# Altium integrated library ST Data Line Filter.IntLib: 2 symbols
Pins are listed as number, name and electrical type; pins without a type are passive.

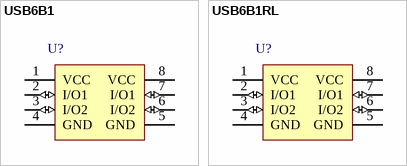
[diagram p0: symbols USB6B1 to USB6B1RL]

## USB6B1
designator U?
Data Lines Protection, 2-Input Line Filter + ESD + Vbus, SO-8; Published: 6-Jun-2005; DatasheetDocument: 2003; PackageDocument: Dec-2002; PackageReference: SO8; Publisher: Altium Limited; Code_JEDEC: MS-012-AA; Code_IPC: SO8; ComponentLink1Description: Manufacturer Link; ComponentLink1URL: http://www.st.com/; ComponentLink2Description: Datasheet; ComponentLink2URL: http://www.st.com/stonline/books/pdf/docs/5605.pdf
footprint SO8 (Small Outline; 8 Leads; Body Width 3.9 mm; Pitch 1.27 mm)
3D model SO8 (Small Outline; 8 Leads; Body Width 3.9 mm; Pitch 1.27 mm)
pins: 1 VCC (power) "Supply", 2 I/O1 (io) "Input/Output 1", 3 I/O2 (io) "Input/Output 2", 4 GND (power) "Ground", 5 GND (power) "Ground", 6 I/O2 (io) "Input/Output 2", 7 I/O1 (io) "Input/Output 1", 8 VCC (power) "Supply"

## USB6B1RL
designator U?
Data Lines Protection, 2-Input Line Filter + ESD + Vbus, SO-8; Published: 6-Jun-2005; DatasheetDocument: 2003; PackageDocument: Dec-2002; PackageReference: SO8; Publisher: Altium Limited; Code_JEDEC: MS-012-AA; Code_IPC: SO8; ComponentLink1Description: Manufacturer Link; ComponentLink1URL: http://www.st.com/; ComponentLink2Description: Datasheet; ComponentLink2URL: http://www.st.com/stonline/books/pdf/docs/5605.pdf
footprint SO8 (Small Outline; 8 Leads; Body Width 3.9 mm; Pitch 1.27 mm)
3D model SO8 (Small Outline; 8 Leads; Body Width 3.9 mm; Pitch 1.27 mm)
pins: 1 VCC (power) "Supply", 2 I/O1 (io) "Input/Output 1", 3 I/O2 (io) "Input/Output 2", 4 GND (power) "Ground", 5 GND (power) "Ground", 6 I/O2 (io) "Input/Output 2", 7 I/O1 (io) "Input/Output 1", 8 VCC (power) "Supply"